# Altium footprint library FPC-PCB-8PIN.PcbLib: 1 footprints
Each footprint in its own frame and in the unit in brackets; x right, y up, seen from the top. Pads: shape width x height; smd on the part's side, far side on the other; paste and mask are expansions set on the pad; w line width, h text height; cw(c..) or ccw(c..) is an arc to the next point about the centre after c.
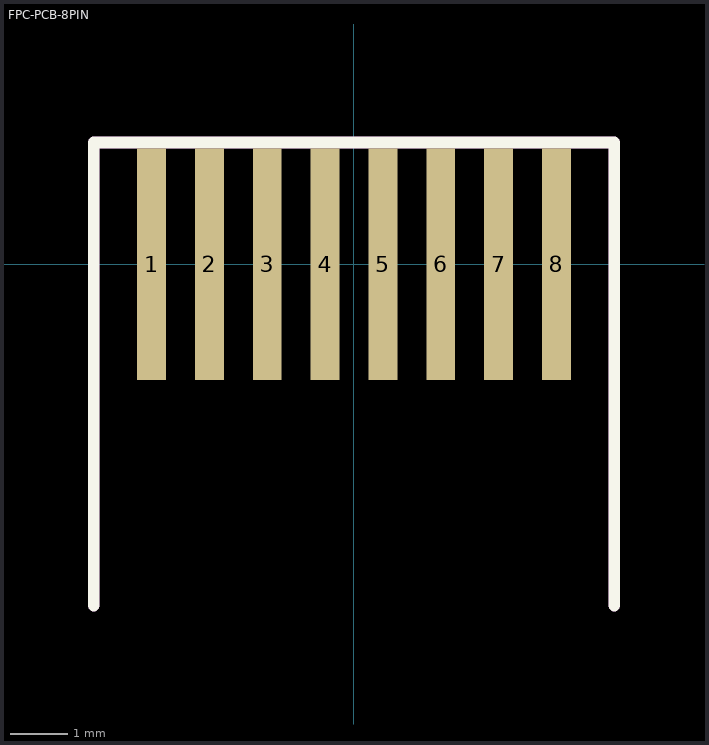
[diagram p0: the footprint, top view; thin cyan lines are the x and y axes]

## FPC-PCB-8PIN [mm]
pads (8):
  rect 0.5x4 smd: 1(-3.5,0) 2(-2.5,0) 3(-1.5,0) 4(-0.5,0) 5(0.5,0) 6(1.5,0) 7(2.5,0) 8(3.5,0)
Top Overlay:
  lines w0.203: -4.5,-5.9 -4.5,2.1 4.5,2.1 4.5,-5.9
Keep-Out Layer:
  lines w0.203: -4.5,-5.9 -4.5,2.1 4.5,2.1 4.5,-5.9